# Altium schematic symbol library LT1910.SchLib: 1 symbol
Pins are listed as number, name and electrical type; pins without a type are passive.

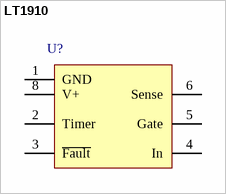
[diagram p0: symbol LT1910]

## LT1910
designator U?
Protected High Side MOSFET Driver
pins: 1 GND (power), 2 Timer, 3 ~{Fault}, 4 In, 5 Gate (power), 6 Sense (power), 8 V+ (power)